# Altium footprint library FerroAudioAmp.PcbLib: 12 footprints
Each footprint in its own frame and in the unit in brackets; x right, y up, seen from the top. Pads: shape width x height; smd on the part's side, far side on the other; paste and mask are expansions set on the pad; w line width, h text height; cw(c..) or ccw(c..) is an arc to the next point about the centre after c.
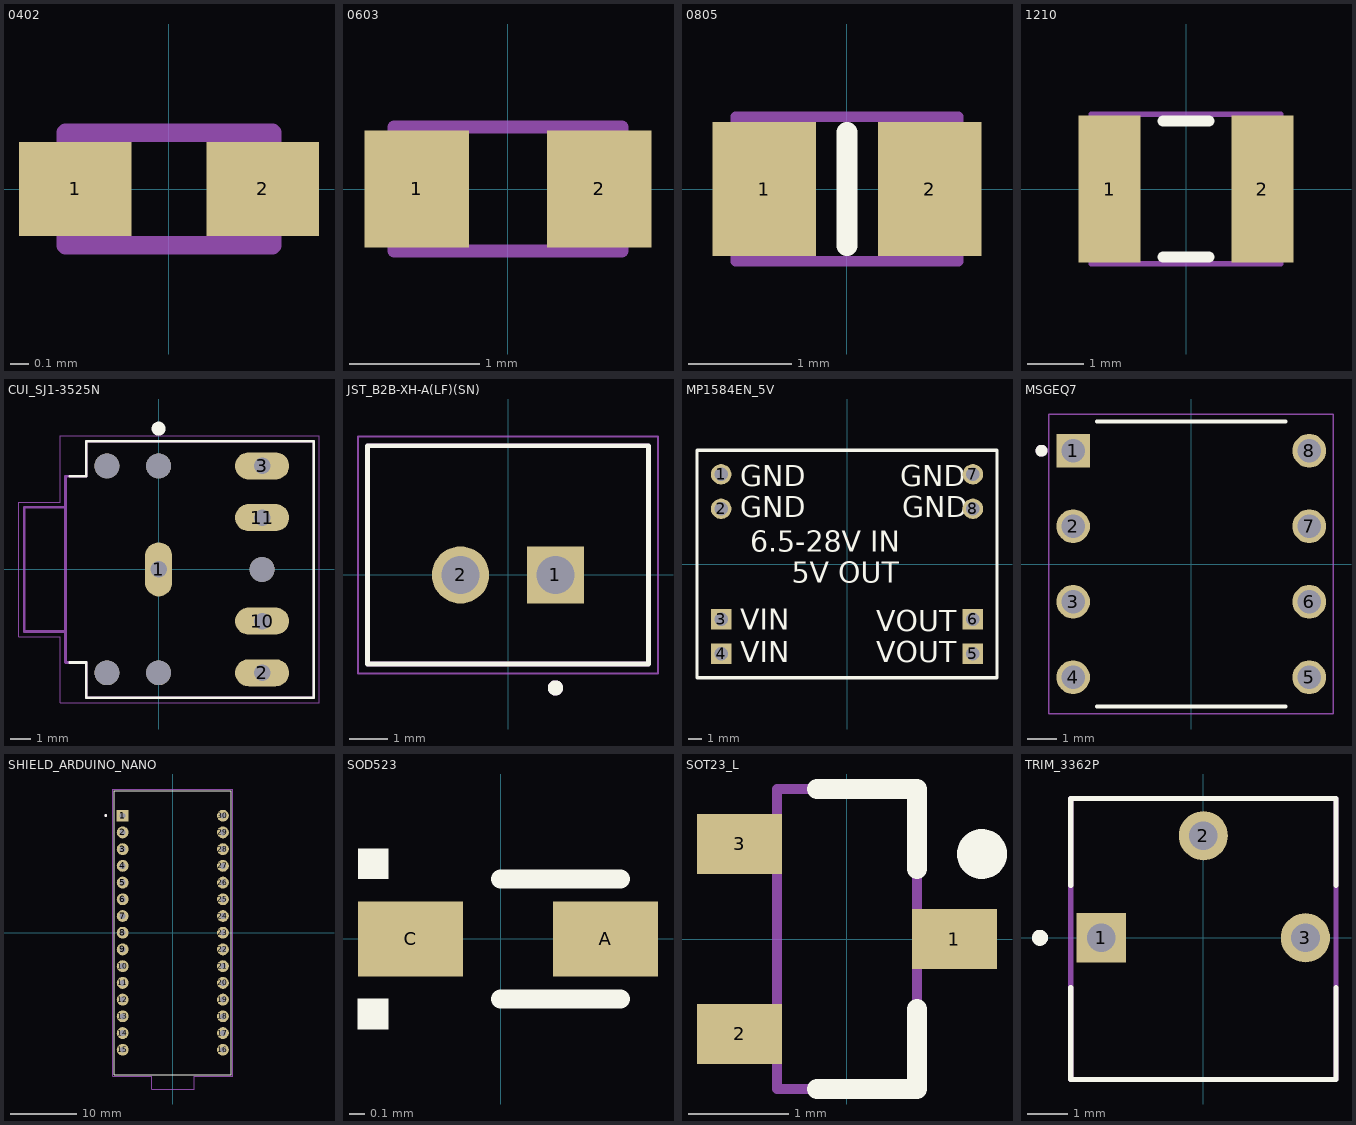
[diagram p0: the footprints below, top view; thin cyan lines are the x and y axes]

## 0402 [mm] "Body 1.0x0.5mm"
height 1.3
pads (2):
  rect 0.6x0.5 smd: 1(-0.5,0) 2(0.5,0)
Mechanical 13:
  lines w0.1: -0.55,-0.3 0.55,-0.3 0.55,0.3 -0.55,0.3 -0.55,-0.3
3D body "4-1676480-9.STEP": height 0.31, standoff -0.01, extent -0.5,-0.25 0.5,0.25

## 0603 [mm] "Body 1.6x0.8mm"
height 1.3
pads (2):
  rect 0.8x0.9 smd: 1(-0.7,0) 2(0.7,0)
Mechanical 13:
  lines w0.1: -0.875,-0.475 0.875,-0.475 0.875,0.475 -0.875,0.475 -0.875,-0.475
3D body "BLM18KG300WH1D.STEP": height 0.78, standoff -0.02, extent -0.8,-0.381 0.8,0.369

## 0805 [mm] "Body 2.0x1.2mm"
height 0.7
pads (2):
  rect 1x1.3 smd: 1(-0.8,0) 2(0.8,0)
Top Overlay:
  lines w0.2: 0,-0.55 0,0.55
Mechanical 13:
  lines w0.1: -1.075,-0.7 1.075,-0.7 1.075,0.7 -1.075,0.7 -1.075,-0.7
Mechanical 15:
  lines w0.1: 0,-0.5 0,0.5
3D body "GRM21BC81C226ME44K.STEP": height 1.46, standoff 0.01, extent -1,-0.625 1,0.625

## 1210 [mm] "Body 3.2x2.5mm"
height 0.9
pads (2):
  rect 1.1x2.6 smd: 1(-1.35,0) 2(1.35,0)
Top Overlay:
  lines w0.2: -0.4,-1.2 0.4,-1.2 ; -0.4,1.2 0.4,1.2
Mechanical 13:
  lines w0.1: -1.675,-1.32 1.675,-1.32 1.675,1.32 -1.675,1.32 -1.675,-1.32
3D body "GRM32RR71H105KA01K.STEP": height 2.5, standoff 0, extent -1.6,-1.1 1.6,1.1

## CUI_SJ1-3525N [mm]
pads (10):
  oval 1.308x2.616 hole 0.8 square: 1(0,0)
  oval 2.616x1.308 hole 0.8 square: 2(5,-5) 3(5,5) 10(5,-2.5) 11(5,2.5)
  round 1.2 hole 1.2 unplated: ""(-2.5,-5) ""(-2.5,5) ""(0,-5) ""(0,5) ""(5,0)
Top Overlay:
  circle w0.34: c0,6.8 r0.17
  lines w0.127: -4.3,-4.5 -3.5,-4.5 -3.5,-6.2 7.5,-6.2 7.5,6.2 -3.5,6.2 -3.5,4.5 -4.3,4.5
Mechanical 13:
  lines w0.127: -4.5,-3 -6.5,-3 -6.5,3 -4.5,3 ; -4.5,-3 -4.5,-4.5 -3.5,-4.5 -3.5,-6.2 7.5,-6.2 7.5,6.2 -3.5,6.2 -3.5,4.5 -4.5,4.5 -4.5,3 ; -4.5,-3 -4.5,3
  text "PCB edge" at -12.501,6.001 h1.02
Mechanical 15:
  lines w0.05: -6.75,-3.25 -4.75,-3.25 -4.75,-6.45 7.75,-6.45 7.75,6.45 -4.75,6.45 -4.75,3.25 -6.75,3.25 -6.75,-3.25
3D body "CUI_DEVICES_SJ1-3525N.step": height 5.5, standoff -3.3, extent -6.5,-6 7.5,6

## JST_B2B-XH-A(LF)(SN) [mm]
pads (2):
  rect 1.508x1.508 hole 1: 1(1.25,0)
  round 1.508 hole 1: 2(-1.25,0)
Top Overlay:
  circle w0.2: c1.25,-2.975 r0.1
  lines w0.127: -3.7,-2.35 3.7,-2.35 3.7,3.4 -3.7,3.4 -3.7,-2.35
Mechanical 13:
  circle w0.2: c1.25,-2.975 r0.1
  lines w0.127: -3.7,-2.35 3.7,-2.35 3.7,3.4 -3.7,3.4 -3.7,-2.35
Mechanical 15:
  lines w0.05: -3.95,-2.6 3.95,-2.6 3.95,3.65 -3.95,3.65 -3.95,-2.6
3D body "step_temp.STEP": height 7, standoff -3.4, extent -3.7,-2.35 3.7,3.4

## MP1584EN_5V [mil] "MP1584EN_5V"
pads (8):
  round 59.37 hole 39.37: 1(-365,260) 2(-365,160) 7(365,260) 8(365,160)
  rect 59.37x59.37 hole 39.37: 3(-365,-160) 4(-365,-260) 5(365,-260) 6(365,-160)
Top Overlay:
  lines w10: -435,-330 -435,330 435,330 435,-330 -435,-330
  text "VOUT" at 85,-285 h60
  text "VOUT" at 85,-195 h60
  text "VIN" at -310,-285 h60
  text "VIN" at -310,-190 h60
  text "GND" at 160,135 h60
  text "GND" at 155,225 h60
  text "GND" at -310,135 h60
  text "GND" at -310,225 h60
  text "5V OUT" at -160,-55 h60
  text "6.5-28V IN" at -280,35 h60
3D body "User Library-MP1584EN.step": height 268.11, standoff -229.62, extent -435.86,-336.45 430.28,332.84

## MSGEQ7 [mm] "Seven Band Graphic Equalizer"
height 3.65
pads (8):
  rect 1.13x1.13 hole 0.78: 1(-3.97,3.81)
  round 1.13 hole 0.78: 2(-3.97,1.27) 3(-3.97,-1.27) 4(-3.97,-3.81) 5(3.97,-3.81) 6(3.97,-1.27) 7(3.97,1.27) 8(3.97,3.81)
Top Overlay:
  circle w0.2: c-5.035,3.81 r0.1
  lines w0.127: -3.175,-4.795 3.175,-4.795 ; -3.175,4.795 3.175,4.795
Mechanical 13:
  circle w0.2: c-5.035,3.81 r0.1
Mechanical 15:
  lines w0.05: -4.785,-5.045 4.785,-5.045 4.785,5.045 -4.785,5.045 -4.785,-5.045
3D body "SN75471P.STEP": height 5.08, standoff -3.81, extent -3.937,-4.794 3.937,4.794

## SHIELD_ARDUINO_NANO [mm]
pads (30):
  rect 1.8x1.8 hole 0.9: 1(-7.62,17.78)
  round 1.8 hole 0.9: 2(-7.62,15.24) 3(-7.62,12.7) 4(-7.62,10.16) 5(-7.62,7.62) 6(-7.62,5.08) 7(-7.62,2.54) 8(-7.62,0) 9(-7.62,-2.54) 10(-7.62,-5.08) 11(-7.62,-7.62) 12(-7.62,-10.16) 13(-7.62,-12.7) 14(-7.62,-15.24) 15(-7.62,-17.78) 16(7.62,-17.78) 17(7.62,-15.24) 18(7.62,-12.7) 19(7.62,-10.16) 20(7.62,-7.62) 21(7.62,-5.08) 22(7.62,-2.54) 23(7.62,0) 24(7.62,2.54) 25(7.62,5.08) 26(7.62,7.62) 27(7.62,10.16) 28(7.62,12.7) 29(7.62,15.24) 30(7.62,17.78)
Top Overlay:
  circle w0.2: c-10.2,17.8 r0.1
  lines w0.127: -8.89,-21.59 -8.89,21.59 8.89,21.59 8.89,-21.59 -8.89,-21.59
Mechanical 13:
  circle w0.2: c-10.2,17.8 r0.1
Mechanical 15:
  lines w0.05: -9.14,-21.84 -3.22,-21.84 -3.22,-23.745 3.25,-23.745 3.25,-21.84 9.14,-21.84 9.14,21.84 -9.14,21.84 -9.14,-21.84
3D body "Arduino Nano.STEP": height 12.6, standoff -6, extent -9,-23.4 9,21.6

## SOD523 [mm]
pads (2):
  rect 0.7x0.5 smd: A(0.7,0) C(-0.6,0)
Top Overlay:
  region: -0.75,-0.6 -0.951,-0.6 -0.951,-0.4 -0.75,-0.4
  region: -0.75,0.4 -0.95,0.4 -0.95,0.6 -0.75,0.6
  lines w0.127: 0,-0.4 0.8,-0.4 ; 0,0.4 0.8,0.4
3D body "RB520S30.STEP": height 0.7, standoff 0, extent -0.8,-0.4 0.8,0.4

## SOT23_L [mm] "SOT23, 3-Leads, Body 2.9x1.3mm, Pitch 0.95mm, Lead Span 2.3mm - Reverse Pinning, IPC High Density"
height 1.1
pads (3):
  rect 0.85x0.6 smd: 1(1.075,0) 2(-1.075,-0.95) 3(-1.075,0.95)
Top Overlay:
  circle w0.25: c1.35,0.85 r0.125
  lines w0.2: -0.3,-1.5 0.7,-1.5 0.7,-0.7 ; -0.3,1.5 0.7,1.5 0.7,0.7
Mechanical 13:
  lines w0.1: -0.7,-1.5 0.7,-1.5 0.7,1.5 -0.7,1.5 -0.7,-1.5
3D body: height 1.1, standoff 0, extent -0.7,-1.5 0.7,1.5

## TRIM_3362P [mm]
pads (3):
  rect 1.222x1.222 hole 0.714: 1(-2.54,0)
  round 1.222 hole 0.714: 2(0,2.54) 3(2.54,0)
Top Overlay:
  circle w0.2: c-4.064,0 r0.1
  lines w0.127: -3.3,-3.53 3.3,-3.53 ; -3.3,-3.52 -3.3,-1.235 ; -3.3,1.305 -3.3,3.47 3.3,3.47 3.3,1.305 ; 3.3,-3.52 3.3,-1.235
Mechanical 13:
  lines w0.127: -3.3,-3.53 -3.3,3.47 3.3,3.47 3.3,-3.53 -3.3,-3.53
3D body "3362P-1-103LF.STEP": height 4.88, standoff -5.84, extent -3.3,-3.495 3.3,3.495